# EAGLE library part DSPIC33EP512MU814 (library BlueBoard)
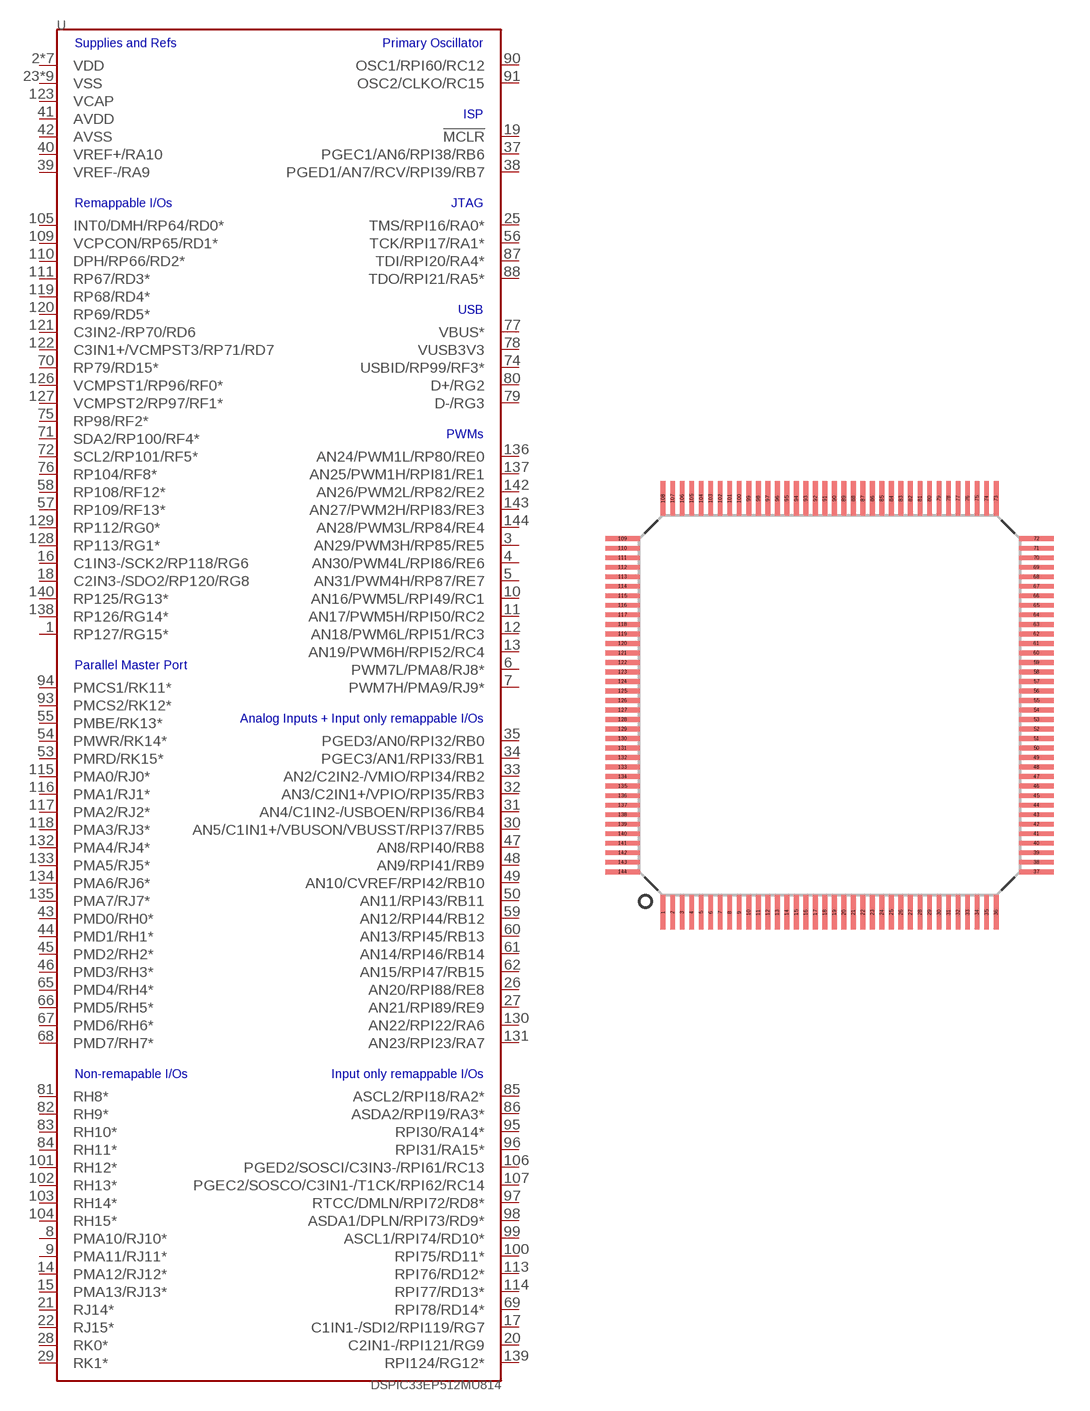
[diagram p0: symbol with the pads of TQFP_144; footprint TQFP_144]

Designator prefix -

## DSPIC33EP512MU814  [TQFP_144]
1  RP127/RG15*
2  VDD  pwr
3  AN29/PWM3H/RP85/RE5
4  AN30/PWM4L/RPI86/RE6
5  AN31/PWM4H/RP87/RE7
6  PWM7L/PMA8/RJ8*
7  PWM7H/PMA9/RJ9*
8  PMA10/RJ10*
9  PMA11/RJ11*
10  AN16/PWM5L/RPI49/RC1
11  AN17/PWM5H/RPI50/RC2
12  AN18/PWM6L/RPI51/RC3
13  AN19/PWM6H/RPI52/RC4
14  PMA12/RJ12*
15  PMA13/RJ13*
16  C1IN3-/SCK2/RP118/RG6
17  C1IN1-/SDI2/RPI119/RG7
18  C2IN3-/SDO2/RP120/RG8
19  !MCLR!
20  C2IN1-/RPI121/RG9
21  RJ14*
22  RJ15*
23  VSS  pwr
24  VDD  pwr
25  TMS/RPI16/RA0*
26  AN20/RPI88/RE8
27  AN21/RPI89/RE9
28  RK0*
29  RK1*
30  AN5/C1IN1+/VBUSON/VBUSST/RPI37/RB5
31  AN4/C1IN2-/USBOEN/RPI36/RB4
32  AN3/C2IN1+/VPIO/RPI35/RB3
33  AN2/C2IN2-/VMIO/RPI34/RB2
34  PGEC3/AN1/RPI33/RB1
35  PGED3/AN0/RPI32/RB0
36  VSS  pwr
37  PGEC1/AN6/RPI38/RB6
38  PGED1/AN7/RCV/RPI39/RB7
39  VREF-/RA9
40  VREF+/RA10
41  AVDD  pwr
42  AVSS  pwr
43  PMD0/RH0*
44  PMD1/RH1*
45  PMD2/RH2*
46  PMD3/RH3*
47  AN8/RPI40/RB8
48  AN9/RPI41/RB9
49  AN10/CVREF/RPI42/RB10
50  AN11/RPI43/RB11
51  VSS  pwr
52  VDD  pwr
53  PMRD/RK15*
54  PMWR/RK14*
55  PMBE/RK13*
56  TCK/RPI17/RA1*
57  RP109/RF13*
58  RP108/RF12*
59  AN12/RPI44/RB12
60  AN13/RPI45/RB13
61  AN14/RPI46/RB14
62  AN15/RPI47/RB15
63  VSS  pwr
64  VDD  pwr
65  PMD4/RH4*
66  PMD5/RH5*
67  PMD6/RH6*
68  PMD7/RH7*
69  RPI78/RD14*
70  RP79/RD15*
71  SDA2/RP100/RF4*
72  SCL2/RP101/RF5*
73  VSS  pwr
74  USBID/RP99/RF3*
75  RP98/RF2*
76  RP104/RF8*
77  VBUS*
78  VUSB3V3
79  D-/RG3
80  D+/RG2
81  RH8*
82  RH9*
83  RH10*
84  RH11*
85  ASCL2/RPI18/RA2*
86  ASDA2/RPI19/RA3*
87  TDI/RPI20/RA4*
88  TDO/RPI21/RA5*
89  VDD  pwr
90  OSC1/RPI60/RC12
91  OSC2/CLKO/RC15
92  VSS  pwr
93  PMCS2/RK12*
94  PMCS1/RK11*
95  RPI30/RA14*
96  RPI31/RA15*
97  RTCC/DMLN/RPI72/RD8*
98  ASDA1/DPLN/RPI73/RD9*
99  ASCL1/RPI74/RD10*
100  RPI75/RD11*
101  RH12*
102  RH13*
103  RH14*
104  RH15*
105  INT0/DMH/RP64/RD0*
106  PGED2/SOSCI/C3IN3-/RPI61/RC13
107  PGEC2/SOSCO/C3IN1-/T1CK/RPI62/RC14
108  VSS  pwr
109  VCPCON/RP65/RD1*
110  DPH/RP66/RD2*
111  RP67/RD3*
112  VDD  pwr
113  RPI76/RD12*
114  RPI77/RD13*
115  PMA0/RJ0*
116  PMA1/RJ1*
117  PMA2/RJ2*
118  PMA3/RJ3*
119  RP68/RD4*
120  RP69/RD5*
121  C3IN2-/RP70/RD6
122  C3IN1+/VCMPST3/RP71/RD7
123  VCAP  pas
124  VDD  pwr
125  VSS  pwr
126  VCMPST1/RP96/RF0*
127  VCMPST2/RP97/RF1*
128  RP113/RG1*
129  RP112/RG0*
130  AN22/RPI22/RA6
131  AN23/RPI23/RA7
132  PMA4/RJ4*
133  PMA5/RJ5*
134  PMA6/RJ6*
135  PMA7/RJ7*
136  AN24/PWM1L/RP80/RE0
137  AN25/PWM1H/RPI81/RE1
138  RP126/RG14*
139  RPI124/RG12*
140  RP125/RG13*
141  VSS  pwr
142  AN26/PWM2L/RP82/RE2
143  AN27/PWM2H/RPI83/RE3
144  AN28/PWM3L/RP84/RE4

## Footprint TQFP_144 (pad centres in mm)
smd 0.203 x 1.45: 1 -7,-8.7; 2 -6.6,-8.7; 3 -6.2,-8.7; 4 -5.8,-8.7; 5 -5.4,-8.7; 6 -5,-8.7; 7 -4.6,-8.7; 8 -4.2,-8.7; 9 -3.8,-8.7; 10 -3.4,-8.7; 11 -3,-8.7; 12 -2.6,-8.7; 13 -2.2,-8.7; 14 -1.8,-8.7; 15 -1.4,-8.7; 16 -1,-8.7; 17 -0.6,-8.7; 18 -0.2,-8.7; 19 0.2,-8.7; 20 0.6,-8.7; 21 1,-8.7; 22 1.4,-8.7; 23 1.8,-8.7; 24 2.2,-8.7; 25 2.6,-8.7; 26 3,-8.7; 27 3.4,-8.7; 28 3.8,-8.7; 29 4.2,-8.7; 30 4.6,-8.7; 31 5,-8.7; 32 5.4,-8.7; 33 5.8,-8.7; 34 6.2,-8.7; 35 6.6,-8.7; 36 7,-8.7; 73 7,8.7; 74 6.6,8.7; 75 6.2,8.7; 76 5.8,8.7; 77 5.4,8.7; 78 5,8.7; 79 4.6,8.7; 80 4.2,8.7; 81 3.8,8.7; 82 3.4,8.7; 83 3,8.7; 84 2.6,8.7; 85 2.2,8.7; 86 1.8,8.7; 87 1.4,8.7; 88 1,8.7; 89 0.6,8.7; 90 0.2,8.7; 91 -0.2,8.7; 92 -0.6,8.7; 93 -1,8.7; 94 -1.4,8.7; 95 -1.8,8.7; 96 -2.2,8.7; 97 -2.6,8.7; 98 -3,8.7; 99 -3.4,8.7; 100 -3.8,8.7; 101 -4.2,8.7; 102 -4.6,8.7; 103 -5,8.7; 104 -5.4,8.7; 105 -5.8,8.7; 106 -6.2,8.7; 107 -6.6,8.7; 108 -7,8.7
smd 1.45 x 0.203: 37 8.7,-7; 38 8.7,-6.6; 39 8.7,-6.2; 40 8.7,-5.8; 41 8.7,-5.4; 42 8.7,-5; 43 8.7,-4.6; 44 8.7,-4.2; 45 8.7,-3.8; 46 8.7,-3.4; 47 8.7,-3; 48 8.7,-2.6; 49 8.7,-2.2; 50 8.7,-1.8; 51 8.7,-1.4; 52 8.7,-1; 53 8.7,-0.6; 54 8.7,-0.2; 55 8.7,0.2; 56 8.7,0.6; 57 8.7,1; 58 8.7,1.4; 59 8.7,1.8; 60 8.7,2.2; 61 8.7,2.6; 62 8.7,3; 63 8.7,3.4; 64 8.7,3.8; 65 8.7,4.2; 66 8.7,4.6; 67 8.7,5; 68 8.7,5.4; 69 8.7,5.8; 70 8.7,6.2; 71 8.7,6.6; 72 8.7,7; 109 -8.7,7; 110 -8.7,6.6; 111 -8.7,6.2; 112 -8.7,5.8; 113 -8.7,5.4; 114 -8.7,5; 115 -8.7,4.6; 116 -8.7,4.2; 117 -8.7,3.8; 118 -8.7,3.4; 119 -8.7,3; 120 -8.7,2.6; 121 -8.7,2.2; 122 -8.7,1.8; 123 -8.7,1.4; 124 -8.7,1; 125 -8.7,0.6; 126 -8.7,0.2; 127 -8.7,-0.2; 128 -8.7,-0.6; 129 -8.7,-1; 130 -8.7,-1.4; 131 -8.7,-1.8; 132 -8.7,-2.2; 133 -8.7,-2.6; 134 -8.7,-3; 135 -8.7,-3.4; 136 -8.7,-3.8; 137 -8.7,-4.2; 138 -8.7,-4.6; 139 -8.7,-5; 140 -8.7,-5.4; 141 -8.7,-5.8; 142 -8.7,-6.2; 143 -8.7,-6.6; 144 -8.7,-7